# Altium schematic symbol library schli_temperture_sensor_NTC.SchLib: 1 symbol
Pins are listed as number, name and electrical type; pins without a type are passive.

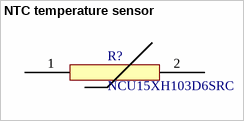
[diagram p0: symbol NTC temperature sensor]

## NTC temperature sensor
designator R?, comment NCU15XH103D6SRC
10kΩ ±0.5% 3380K ±0.7% 0402 NTC Thermistors ROHS / Recommended For You; Manufacturer: Murata Electronics; ComponentLink1Description: datasheet; ComponentLink1URL: https://www.lcsc.com/datasheet/lcsc_datasheet_2401291008_Murata-Electronics-NCU15XH103D6SRC_C17294780.pdf; Manufacturer part number: NCU15XH103D6SRC; supplier: lcsc; supplier part number: C17294780
footprint PCBComponent_1
pins: 1, 2